# EAGLE library part ADC121C021 (library observer)
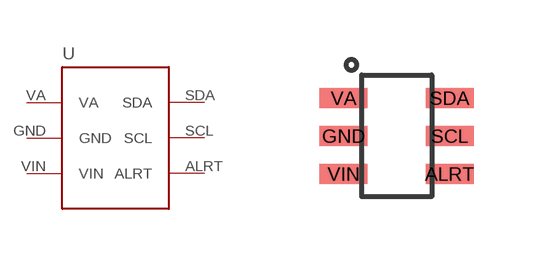
[diagram p2: symbol with the pads of ADC121C021; footprint ADC121C021]

Designator prefix -

## ADC121C021  [ADC121C021]
ALRT  ALRT
GND  GND
SCL  SCL
SDA  SDA
VA  VA
VIN  VIN

## Footprint ADC121C021 (pad centres in mm)
smd 1.2 x 0.5: ALRT 2.2,0.575; GND -0.45,1.525; SCL 2.2,1.525; SDA 2.2,2.475; VA -0.45,2.475; VIN -0.45,0.575